# Altium footprint library Resistors.PcbLib: 15 footprints
Each footprint in its own frame and in the unit in brackets; x right, y up, seen from the top. Pads: shape width x height; smd on the part's side, far side on the other; paste and mask are expansions set on the pad; w line width, h text height; cw(c..) or ccw(c..) is an arc to the next point about the centre after c.
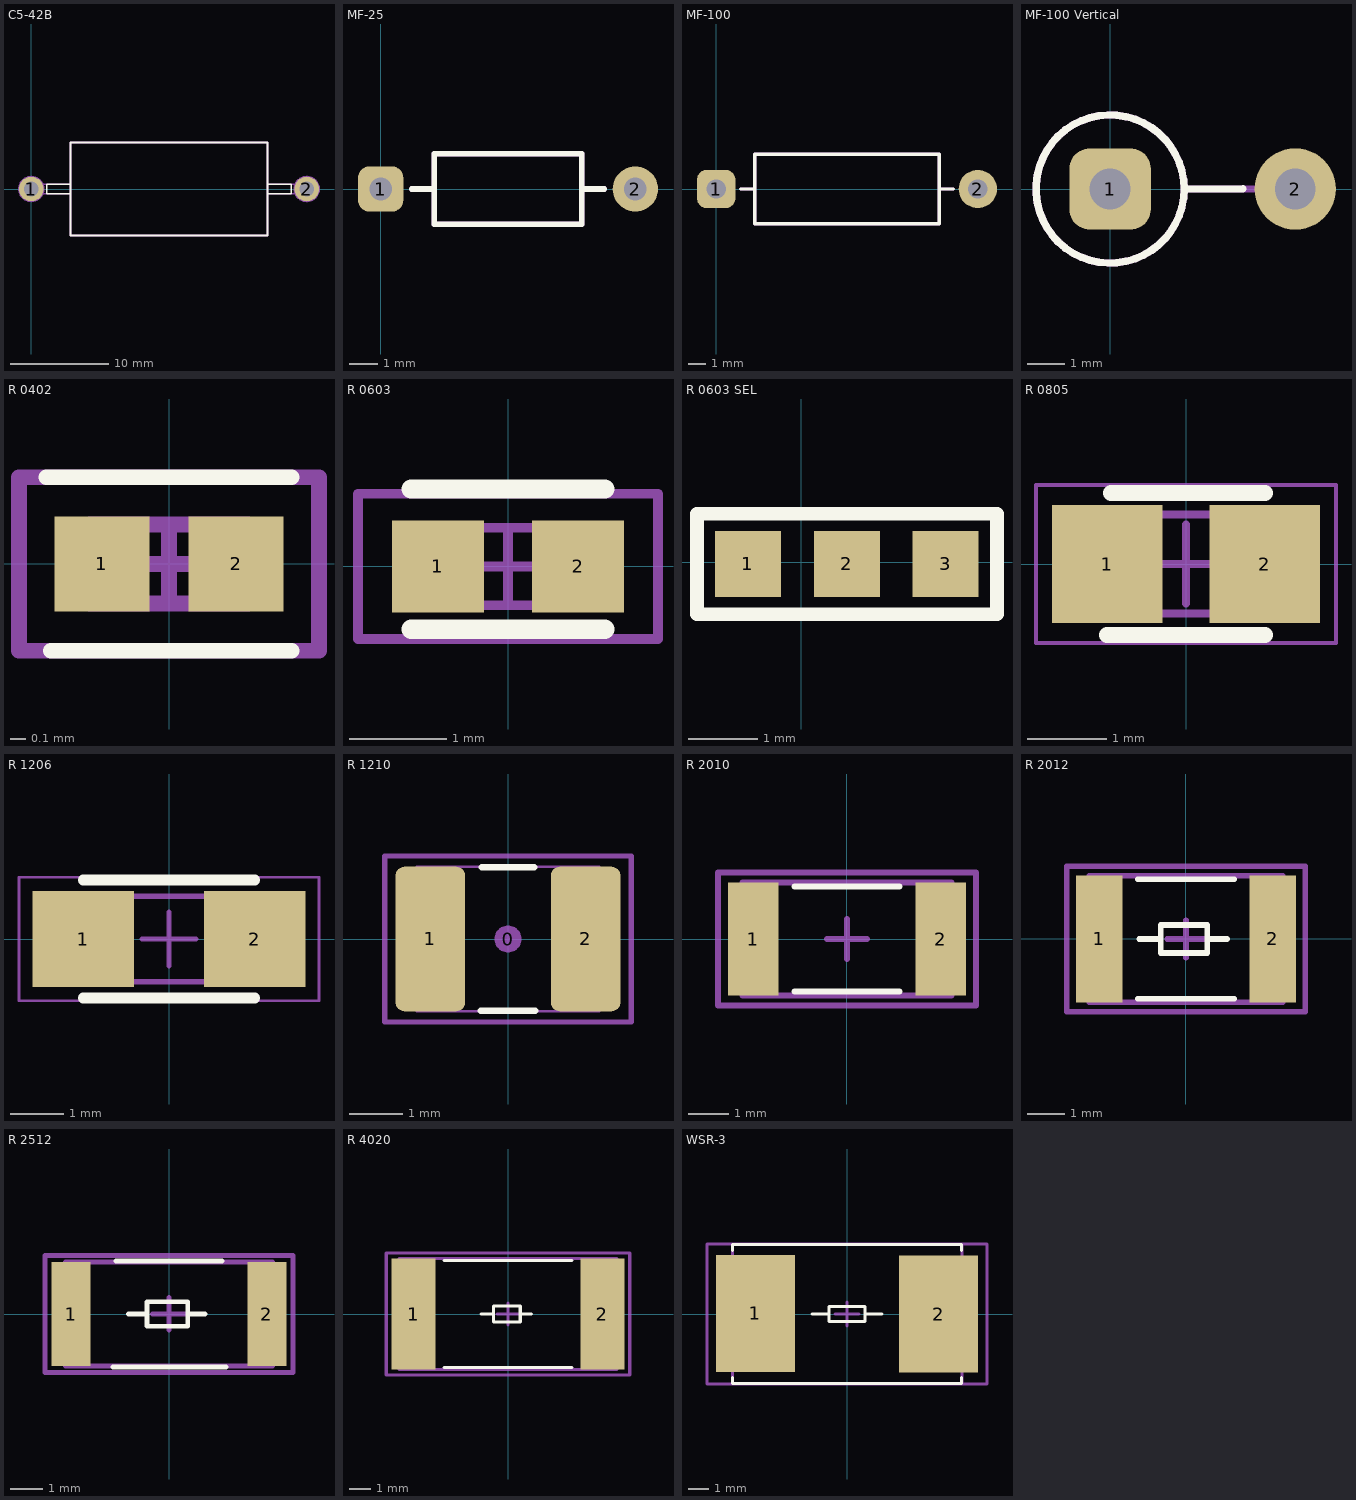
[diagram p0: the footprints below, top view; thin cyan lines are the x and y axes]

## C5-42B [mm]
pads (2):
  round 2.5 hole 1.5: 1(0,0) 2(28,0)
Top Overlay:
  lines w0.15: 4,-0.5 1.55,-0.5 1.55,0.5 4,0.5 ; 24,-0.5 26.45,-0.5 26.45,0.5 24,0.5
  lines w0.2: 4,-4.75 24,-4.75 24,4.75 4,4.75 4,-4.75
Mechanical 8:
  circle w0.2: c0,0 r1.25
  circle w0.2: c28,0 r1.25
  lines w0.15: 1.15,-0.5 4,-0.5 ; 1.15,0.5 4,0.5 ; 24,-0.5 26.85,-0.5 ; 24,0.5 26.85,0.5
  lines w0.2: 4,-4.75 4,4.75 24,4.75 24,-4.75 4,-4.75
  text ".Designator" at 6.5,-2.3 h9
3D body "C5-42B.stp": height 10.75, standoff -3, extent -0.5,-4.75 28.5,4.75

## MF-25 [mm]
pads (2):
  rrect50% 1.6x1.6 hole 0.8: 1(0,0)
  round 1.6 hole 0.8: 2(9,0)
Top Overlay:
  lines w0.2: 1.1,0 1.9,0 ; 7.1,0 7.9,0 ; 1.9,0 1.9,1.25 7.1,1.25 7.1,-1.25 1.9,-1.25 1.9,0
Mechanical 8:
  lines w0.2: 1.1,0 1.9,0 ; 7.1,0 7.9,0 ; 1.9,0 1.9,-1.25 7.1,-1.25 7.1,1.25 1.9,1.25 1.9,0
  text ".Designator" at 2.5,-0.6 h2
3D body "MF-25.stp": height 2.5, standoff -1.8, extent -0.275,-1.147 9.275,1.148

## MF-100 [mm]
pads (2):
  rrect50% 2.2x2.2 hole 1.1: 1(0,0)
  round 2.2 hole 1.1: 2(15,0)
Top Overlay:
  lines w0.2: 1.4,0 2.18,0 ; 12.8,0 13.6,0 ; 2.2,-2 2.2,0 2.2,2 12.8,2 12.8,-2 2.2,-2
Mechanical 8:
  lines w0.2: 1.4,0 2.18,0 ; 12.8,0 13.6,0 ; 2.2,-2 12.8,-2 12.8,2 2.2,2 2.2,0 2.2,-2
  text ".Designator" at 3,-1.1 h3.5
3D body "MF-100.stp": height 4, standoff -3, extent -0.4,-2 15.4,2

## MF-100 Vertical [mm]
pads (2):
  rrect50% 2.2x2.2 hole 1.1: 1(0,0)
  round 2.2 hole 1.1: 2(5,0)
Top Overlay:
  circle w0.2: c0,0 r2
  lines w0.2: 2,0 3.58,0 3.59,0.01
Mechanical 8:
  circle w0.2: c0,0 r2
  lines w0.2: 2,0 5,0
  text ".Designator" at -0.85,2.25 h2.5
3D body "MF-100_vertical.stp": height 14.4, standoff -3, extent -2,-2 5.399,2

## R 0402 [mm] "Chip Resistor, 2-Leads, Body 1,00x0,50mm, IPC Medium Density"
height 0.4
pads (2):
  rect 0.6x0.6 smd: 1(-0.425,0) 2(0.425,0)
Top Overlay:
  lines w0.1: -0.775,0.55 0.775,0.55 ; -0.749,-0.55 0.775,-0.55
Mechanical 8:
  lines w0.1: -0.95,-0.55 0.95,-0.55 0.95,0.55 -0.95,0.55 -0.95,-0.55
  text "'.Designator'" at -1.95,-0.225 h1
Mechanical 13:
  lines w0.1: -0.5,-0.25 -0.5,0.25 0.5,0.25 0.5,-0.25 -0.5,-0.25
Mechanical 15:
  lines w0.05: -0.95,-0.55 -0.95,0.55 0.95,0.55 0.95,-0.55 -0.95,-0.55
  lines w0.1: -0.25,0 0.25,0 ; 0,-0.25 0,0.25
3D body "Chip Resistor 0402.step": height 0.4, standoff 0, extent -0.5,-0.25 0.5,0.25

## R 0603 [mm] "Chip Resistor, 2-Leads, Body 1,60x0,80mm, IPC Medium Density"
height 0.55
pads (2):
  rect 0.95x0.95 smd: 1(-0.725,0) 2(0.725,0)
Top Overlay:
  lines w0.2: -1,-0.65 1,-0.65 ; -1,0.8 1,0.8
Mechanical 8:
  lines w0.1: -1.55,-0.75 -1.55,0.75 1.55,0.75 1.55,-0.75 -1.55,-0.75
  text "'.Designator'" at -0.5,-0.25 h1
Mechanical 13:
  lines w0.1: -0.8,-0.4 0.8,-0.4 0.8,0.4 -0.8,0.4 -0.8,-0.4
Mechanical 15:
  lines w0.05: -1.55,-0.75 1.55,-0.75 1.55,0.75 -1.55,0.75 -1.55,-0.75
  lines w0.1: -0.4,0 0.4,0 ; 0,-0.4 0,0.4
3D body "Chip Resistor 0603.step": height 0.5, standoff 0, extent -0.8,-0.4 0.8,0.4

## R 0603 SEL [mm] "0603 placement for choice line"
pads (3):
  rect 0.95x0.95 smd: 1(-0.765,-0.025) 2(0.66,-0.025) 3(2.085,-0.025)
Top Overlay:
  lines w0.2: -1.5,-0.75 -1.5,0.7 2.825,0.7 2.825,-0.75 -1.5,-0.75
3D body "User Library-Chip Resistor_0603 (1608).STEP": height 0.47, standoff 0, extent -0.825,-0.425 0.775,0.377

## R 0805 [mm] "Chip Resistor, 2-Leads, Body 2,00x1,25mm, IPC Medium Density"
height 0.65
pads (2):
  rect 1.4x1.5 smd: 1(-1,0) 2(1,0)
Top Overlay:
  lines w0.2: -1,-0.9 1,-0.9 ; -0.95,0.9 1,0.9
Mechanical 13:
  lines w0.1: -1,-0.625 -1,0.625 1,0.625 1,-0.625 -1,-0.625
Mechanical 15:
  lines w0.05: -1.9,-1 -1.9,1 1.9,1 1.9,-1 -1.9,-1
  lines w0.1: -0.5,0 0.5,0 ; 0,-0.5 0,0.5
3D body "Chip Resistor 0805.step": height 0.5, standoff 0, extent -1,-0.6 1,0.6

## R 1206 [mm] "Chip Resistor, 2-Leads, Body 3,15x1,60mm, IPC Medium Density"
height 0.7
pads (2):
  rect 1.9x1.8 smd: 1(-1.6,0) 2(1.6,0)
Top Overlay:
  lines w0.2: -1.6,-1.1 1.6,-1.1 ; -1.6,1.1 1.6,1.1
Mechanical 13:
  lines w0.1: -1.6,-0.8 1.6,-0.8 1.6,0.8 -1.6,0.8 -1.6,-0.8
Mechanical 15:
  lines w0.05: -2.8,-1.15 2.8,-1.15 2.8,1.15 -2.8,1.15 -2.8,-1.15
  lines w0.1: -0.5,0 0.5,0 ; 0,-0.5 0,0.5
3D body "Chip Resistor 1206.step": height 0.6, standoff 0, extent -1.6,-0.8 1.6,0.8

## R 1210 [mm] "Chip Resistor, Body 3.2x2.5mm, EIA 1210, IPC Medium Density"
height 0.7
pads (3):
  round 0.508 on Mech15: 0(0,0)
  rrect25% 1.3x2.7 smd: 1(-1.45,0) 2(1.45,0)
Top Overlay:
  lines w0.127: -0.508,-1.339 0.508,-1.339 ; -0.483,1.339 0.483,1.339
Mechanical 13:
  lines w0.05: -1.7,-1.35 -1.7,1.35 -1.1,1.35 -1.1,-1.35 -1.7,-1.35 ; -1.1,-1.349 1.1,-1.349 -1.1,-1.349 ; -1.1,1.349 1.1,1.349 -1.1,1.349 ; 1.1,-1.35 1.7,-1.35 1.7,1.35 1.1,1.35 1.1,-1.35
Mechanical 15:
  lines w0.1: -2.3,-1.55 2.3,-1.55 2.3,1.55 -2.3,1.55 -2.3,-1.55
3D body "RES 1210 (3225 metric).STEP": height 0.69, standoff -0.01, extent -1.7,-1.35 1.7,1.35

## R 2010 [mm]
height 0.7
pads (2):
  rect 1.25x2.8 smd: 1(-2.325,0) 2(2.325,0)
Top Overlay:
  lines w0.15: -1.3,-1.3 1.3,-1.3 ; -1.3,1.3 1.3,1.3
Mechanical 15:
  lines w0.15: -0.5,0 0.5,0 ; 0,-0.5 0,0.5 ; -3.2,-1.65 3.2,-1.65 3.2,1.65 -3.2,1.65 -3.2,-1.65
Mechanical 29:
  lines w0.15: -2.6,-1.4 2.6,-1.4 2.6,1.4 -2.6,1.4 -2.6,-1.4
  text ".Designator" at -2.2,-0.5 h1
3D body "C2010R.step": height 0.7, standoff 0, extent -2.6,-1.4 2.6,1.4

## R 2012 [mm]
height 0.7
pads (2):
  rect 1.25x3.4 smd: 1(-2.325,0) 2(2.325,0)
Top Overlay:
  lines w0.15: -1.3,-1.6 1.3,-1.6 ; -1.3,1.6 1.3,1.6 ; -1.25,0 -0.675,0 ; 1.1,0 0.575,0 ; -0.675,0 -0.675,0.375 0.575,0.375 0.575,0 ; -0.675,0 -0.675,-0.375 0.575,-0.375 0.575,0
Mechanical 15:
  lines w0.15: -0.5,0 0.5,0 ; 0,-0.5 0,0.5 ; -3.2,-1.95 3.2,-1.95 3.2,1.95 -3.2,1.95 -3.2,-1.95
Mechanical 29:
  lines w0.15: -2.6,-1.7 2.6,-1.7 2.6,1.7 -2.6,1.7 -2.6,-1.7
  text ".Designator" at -2.2,-0.4 h1
3D body "C2012R.step": height 0.7, standoff 0, extent -2.6,-1.7 2.6,1.7

## R 2512 [mm] "Chip Resistor, 2-Leads, Body 6,3x3,2mm, IPC Low Density"
height 0.55
pads (2):
  rect 1.2x3.2 smd: 1(-3,0) 2(3,0)
Top Overlay:
  lines w0.15: -1.725,-1.625 1.75,-1.625 ; -1.625,1.625 1.625,1.625 ; -1.25,0 -0.675,0 ; 1.1,0 0.575,0 ; -0.675,0 -0.675,-0.375 0.575,-0.375 0.575,0 ; -0.675,0 -0.675,0.375 0.575,0.375 0.575,0
Mechanical 15:
  lines w0.15: -0.5,0 0.5,0 ; 0,-0.5 0,0.5 ; -3.8,-1.8 3.8,-1.8 3.8,1.8 -3.8,1.8 -3.8,-1.8
Mechanical 29:
  lines w0.15: -3.175,-1.6 3.175,-1.6 3.175,1.6 -3.175,1.6 -3.175,-1.6
  text ".Designator" at -3,-0.4 h1
3D body: height 0.55, standoff 0, extent -3.2,-1.6 -2.5,1.6
3D body: height 0.55, standoff 0, extent 2.5,-1.6 3.2,1.6
3D body: height 0.55, standoff 0, extent -2.5,-1.6 2.5,1.6

## R 4020 [mm]
height 0.7
pads (2):
  rect 2.05x5.2 smd: 1(-4.425,0) 2(4.425,0)
Top Overlay:
  lines w0.15: -3,-2.5 3,-2.5 ; -3,2.5 3,2.5 ; -1.25,0 -0.675,0 ; 1.1,0 0.575,0 ; -0.675,0 -0.675,-0.375 0.575,-0.375 0.575,0 ; -0.675,0 -0.675,0.375 0.575,0.375 0.575,0
Mechanical 15:
  lines w0.15: -0.5,0 0.5,0 ; 0,-0.5 0,0.5 ; -5.7,-2.85 -5.7,2.85 5.7,2.85 5.7,-2.85 -5.7,-2.85
Mechanical 29:
  lines w0.15: -5.1,-2.6 -5.1,2.6 5.1,2.6 5.1,-2.6 -5.1,-2.6
  text ".Designator" at -3.8,-0.2 h1
3D body "C4020R.step": height 0.7, standoff 0, extent -5.1,-2.6 5.1,2.6

## WSR-3 [mm]
height 2.4
pads (2):
  rect 3.94x5.84 smd: 1(-4.575,0.025) 2(4.575,0)
Top Overlay:
  lines w0.15: -5.73,-3.175 -5.73,-3.475 5.725,-3.475 5.725,-3.175 ; -5.73,3.175 -5.73,3.475 5.725,3.475 5.725,3.175 ; -1.75,0 -0.9,0 ; 1.75,0 0.9,0 ; -0.9,0 -0.9,-0.375 0,-0.375 0.9,-0.375 0.9,0 ; -0.9,0 -0.9,0.375 0,0.375 0.9,0.375 0.9,0
Mechanical 15:
  lines w0.15: -0.6,0 0,0 ; 0,-0.6 0,0 ; 0,0.6 0,0 ; 0.6,0 0,0 ; -7,-3.5 7,-3.5 7,3.5 -7,3.5 -7,-3.5
Mechanical 29:
  lines w0.15: -5.725,-3.475 5.75,-3.475 5.75,3.475 -5.725,3.475 -5.725,-3.475
  text ".Designator" at -2.9,-0.2 h1
3D body "WSR-3.STEP": height 2.43, standoff 0, extent -5.785,-3.465 5.775,3.515